# Altium integrated library ST Memory EPROM 16-512 Kbit.IntLib: 933 symbols (part 20 of 21)
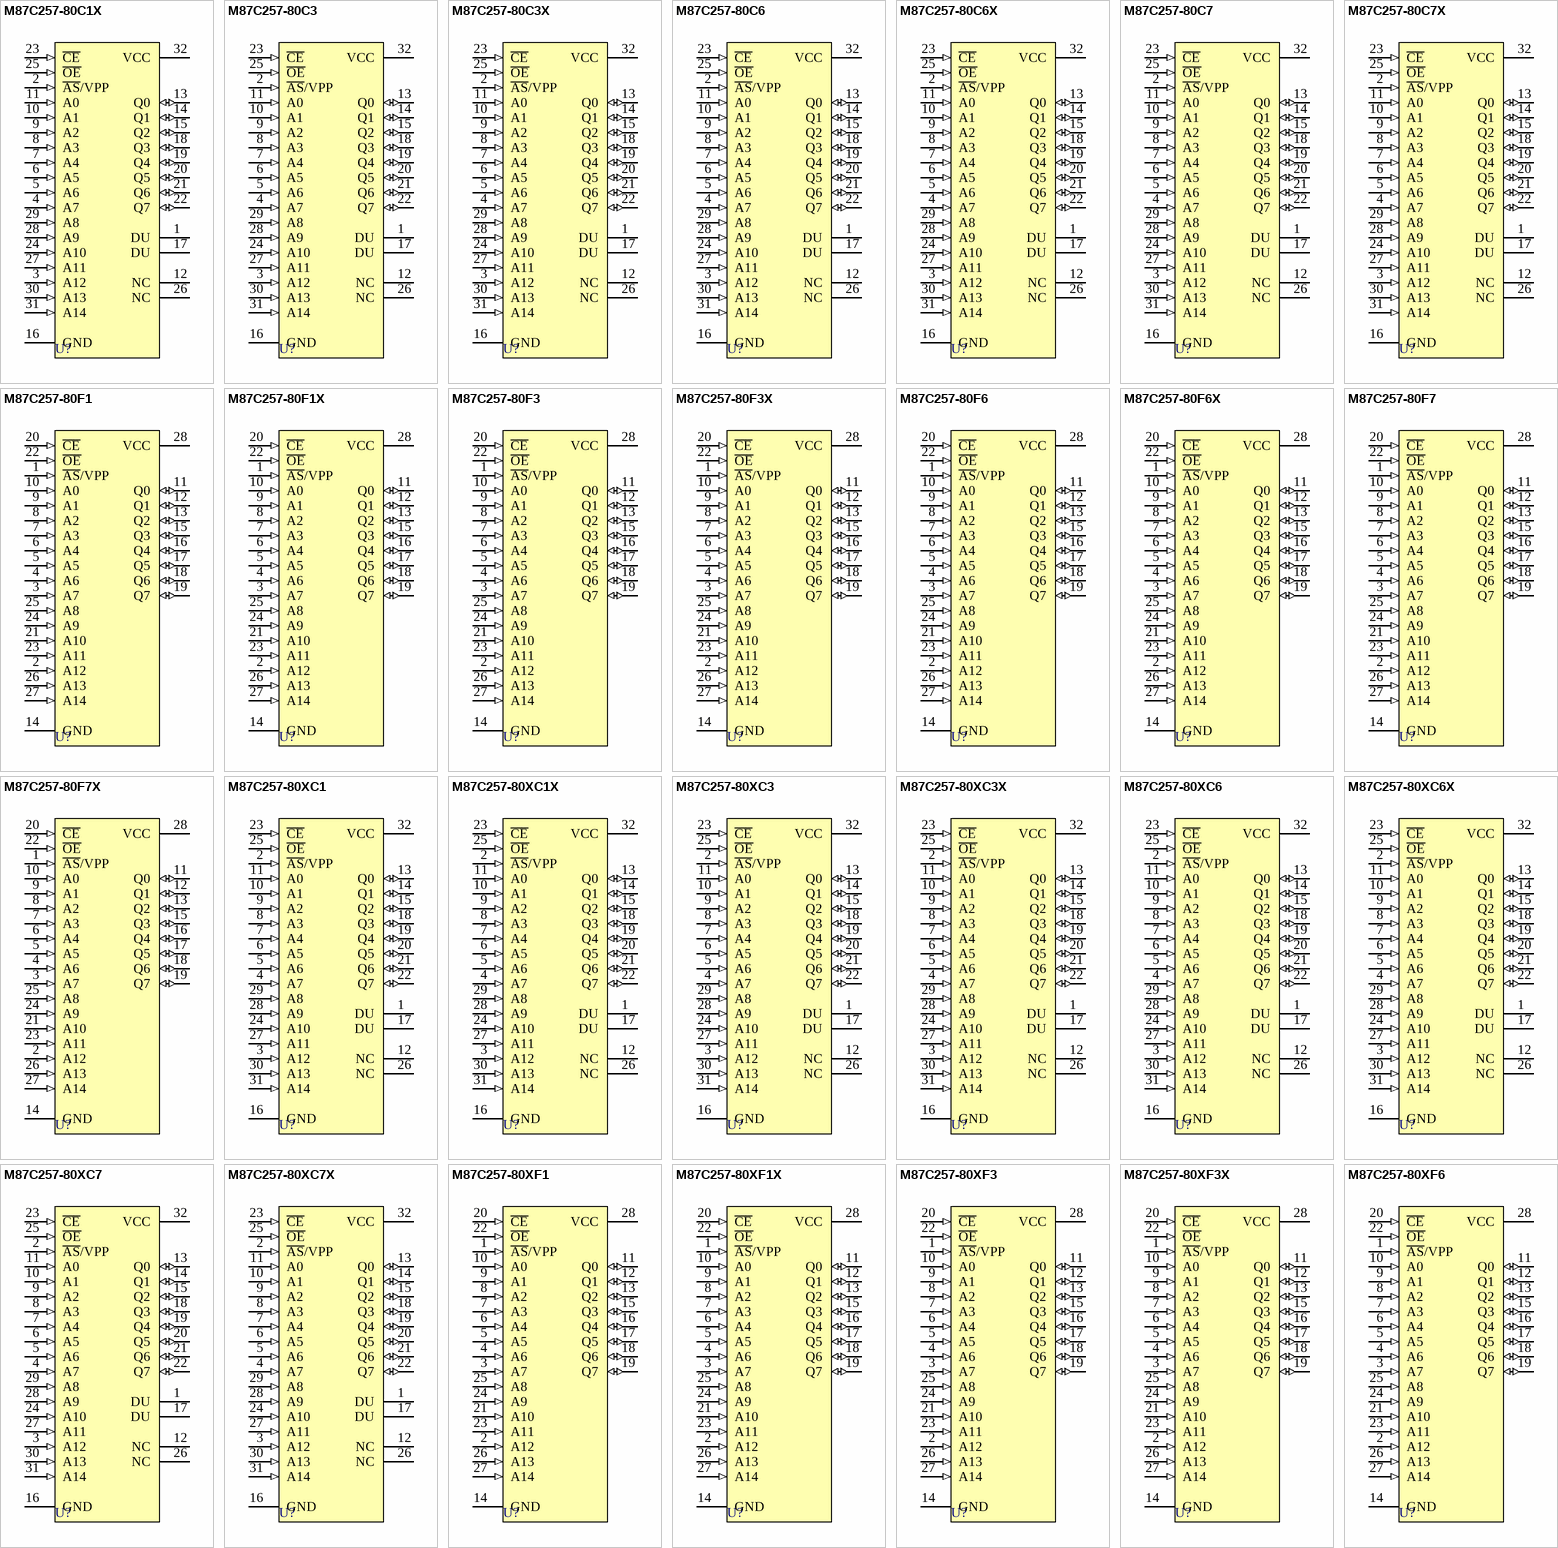
[diagram p53: symbols M87C257-80C1X to M87C257-80XF6]

## M87C257-80C7X
designator U?
Address Latched 256K (32K x 8) UV EPROM and OTP EPROM; Note: Do Not Use (DU) pin numbers 1 and 17.; Published: 24-Aug-2001; LatestRevisionDate: 06-Jun-2005; LatestRevisionNote: Stylized 3D Model Added.; DatasheetVersion: Jun-1996; PackageVersion: Jun-1998; PackageReference: PLCC32; Publisher: Altium Limited; PackageDescription: Leaded Chip Carrier; 32 Leads; Body 11.5 x 14 mm; Code_JEDEC: MS-016-AE; Code_IPC: PLCC/R-32; ComponentLink1Description: Manufacturer Link; ComponentLink1URL: http://www.st.com/
footprint PLCC32 (Leaded Chip Carrier; 32 Leads; Body 11.5 x 14 mm)
3D model M87C257-PLCC32 (Leaded Chip Carrier; 32 Leads; Body 11.5 x 14 mm)
pins: 1 DU, 2 ~{AS}/VPP (in), 3 A12 (in), 4 A7 (in), 5 A6 (in), 6 A5 (in), 7 A4 (in), 8 A3 (in), 9 A2 (in), 10 A1 (in), 11 A0 (in), 12 NC, 13 Q0 (io), 14 Q1 (io), 15 Q2 (io), 16 GND (power), 17 DU, 18 Q3 (io), 19 Q4 (io), 20 Q5 (io), 21 Q6 (io), 22 Q7 (io), 23 ~{CE} (in), 24 A10 (in), 25 ~{OE} (in), 26 NC, 27 A11 (in), 28 A9 (in), 29 A8 (in), 30 A13 (in), 31 A14 (in), 32 VCC (power)

## M87C257-80F1
designator U?
Address Latched 256K (32K x 8) UV EPROM and OTP EPROM; Published: 24-Aug-2001; LatestRevisionDate: 06-Jun-2005; LatestRevisionNote: Stylized 3D Model Added.; DatasheetVersion: Jun-1996; PackageReference: FDIP28W; Publisher: Altium Limited; PackageDescription: Ceramic Frit-seal DIP, Window; 28 Leads; Row Spacing 15.24 mm; Pitch 2.54 mm; ComponentLink1Description: Manufacturer Link; ComponentLink1URL: http://www.st.com/
footprint FDIP28W (Ceramic Frit-seal DIP, Window; 28 Leads; Row Spacing 15.24 mm; Pitch 2.54 mm)
3D model FDIP28W (Ceramic Frit-seal DIP, Window; 28 Leads; Row Spacing 15.24 mm; Pitch 2.54 mm)
pins: 1 ~{AS}/VPP (in), 2 A12 (in), 3 A7 (in), 4 A6 (in), 5 A5 (in), 6 A4 (in), 7 A3 (in), 8 A2 (in), 9 A1 (in), 10 A0 (in), 11 Q0 (io), 12 Q1 (io), 13 Q2 (io), 14 GND (power), 15 Q3 (io), 16 Q4 (io), 17 Q5 (io), 18 Q6 (io), 19 Q7 (io), 20 ~{CE} (in), 21 A10 (in), 22 ~{OE} (in), 23 A11 (in), 24 A9 (in), 25 A8 (in), 26 A13 (in), 27 A14 (in), 28 VCC (power)

## M87C257-80F1X
designator U?
Address Latched 256K (32K x 8) UV EPROM and OTP EPROM; Published: 24-Aug-2001; LatestRevisionDate: 06-Jun-2005; LatestRevisionNote: Stylized 3D Model Added.; DatasheetVersion: Jun-1996; PackageReference: FDIP28W; Publisher: Altium Limited; PackageDescription: Ceramic Frit-seal DIP, Window; 28 Leads; Row Spacing 15.24 mm; Pitch 2.54 mm; ComponentLink1Description: Manufacturer Link; ComponentLink1URL: http://www.st.com/
footprint FDIP28W (Ceramic Frit-seal DIP, Window; 28 Leads; Row Spacing 15.24 mm; Pitch 2.54 mm)
3D model FDIP28W (Ceramic Frit-seal DIP, Window; 28 Leads; Row Spacing 15.24 mm; Pitch 2.54 mm)
pins: 1 ~{AS}/VPP (in), 2 A12 (in), 3 A7 (in), 4 A6 (in), 5 A5 (in), 6 A4 (in), 7 A3 (in), 8 A2 (in), 9 A1 (in), 10 A0 (in), 11 Q0 (io), 12 Q1 (io), 13 Q2 (io), 14 GND (power), 15 Q3 (io), 16 Q4 (io), 17 Q5 (io), 18 Q6 (io), 19 Q7 (io), 20 ~{CE} (in), 21 A10 (in), 22 ~{OE} (in), 23 A11 (in), 24 A9 (in), 25 A8 (in), 26 A13 (in), 27 A14 (in), 28 VCC (power)

## M87C257-80F3
designator U?
Address Latched 256K (32K x 8) UV EPROM and OTP EPROM; Published: 24-Aug-2001; LatestRevisionDate: 06-Jun-2005; LatestRevisionNote: Stylized 3D Model Added.; DatasheetVersion: Jun-1996; PackageReference: FDIP28W; Publisher: Altium Limited; PackageDescription: Ceramic Frit-seal DIP, Window; 28 Leads; Row Spacing 15.24 mm; Pitch 2.54 mm; ComponentLink1Description: Manufacturer Link; ComponentLink1URL: http://www.st.com/
footprint FDIP28W (Ceramic Frit-seal DIP, Window; 28 Leads; Row Spacing 15.24 mm; Pitch 2.54 mm)
3D model FDIP28W (Ceramic Frit-seal DIP, Window; 28 Leads; Row Spacing 15.24 mm; Pitch 2.54 mm)
pins: 1 ~{AS}/VPP (in), 2 A12 (in), 3 A7 (in), 4 A6 (in), 5 A5 (in), 6 A4 (in), 7 A3 (in), 8 A2 (in), 9 A1 (in), 10 A0 (in), 11 Q0 (io), 12 Q1 (io), 13 Q2 (io), 14 GND (power), 15 Q3 (io), 16 Q4 (io), 17 Q5 (io), 18 Q6 (io), 19 Q7 (io), 20 ~{CE} (in), 21 A10 (in), 22 ~{OE} (in), 23 A11 (in), 24 A9 (in), 25 A8 (in), 26 A13 (in), 27 A14 (in), 28 VCC (power)

## M87C257-80F3X
designator U?
Address Latched 256K (32K x 8) UV EPROM and OTP EPROM; Published: 24-Aug-2001; LatestRevisionDate: 06-Jun-2005; LatestRevisionNote: Stylized 3D Model Added.; DatasheetVersion: Jun-1996; PackageReference: FDIP28W; Publisher: Altium Limited; PackageDescription: Ceramic Frit-seal DIP, Window; 28 Leads; Row Spacing 15.24 mm; Pitch 2.54 mm; ComponentLink1Description: Manufacturer Link; ComponentLink1URL: http://www.st.com/
footprint FDIP28W (Ceramic Frit-seal DIP, Window; 28 Leads; Row Spacing 15.24 mm; Pitch 2.54 mm)
3D model FDIP28W (Ceramic Frit-seal DIP, Window; 28 Leads; Row Spacing 15.24 mm; Pitch 2.54 mm)
pins: 1 ~{AS}/VPP (in), 2 A12 (in), 3 A7 (in), 4 A6 (in), 5 A5 (in), 6 A4 (in), 7 A3 (in), 8 A2 (in), 9 A1 (in), 10 A0 (in), 11 Q0 (io), 12 Q1 (io), 13 Q2 (io), 14 GND (power), 15 Q3 (io), 16 Q4 (io), 17 Q5 (io), 18 Q6 (io), 19 Q7 (io), 20 ~{CE} (in), 21 A10 (in), 22 ~{OE} (in), 23 A11 (in), 24 A9 (in), 25 A8 (in), 26 A13 (in), 27 A14 (in), 28 VCC (power)

## M87C257-80F6
designator U?
Address Latched 256K (32K x 8) UV EPROM and OTP EPROM; Published: 24-Aug-2001; LatestRevisionDate: 06-Jun-2005; LatestRevisionNote: Stylized 3D Model Added.; DatasheetVersion: Jun-1996; PackageReference: FDIP28W; Publisher: Altium Limited; PackageDescription: Ceramic Frit-seal DIP, Window; 28 Leads; Row Spacing 15.24 mm; Pitch 2.54 mm; ComponentLink1Description: Manufacturer Link; ComponentLink1URL: http://www.st.com/
footprint FDIP28W (Ceramic Frit-seal DIP, Window; 28 Leads; Row Spacing 15.24 mm; Pitch 2.54 mm)
3D model FDIP28W (Ceramic Frit-seal DIP, Window; 28 Leads; Row Spacing 15.24 mm; Pitch 2.54 mm)
pins: 1 ~{AS}/VPP (in), 2 A12 (in), 3 A7 (in), 4 A6 (in), 5 A5 (in), 6 A4 (in), 7 A3 (in), 8 A2 (in), 9 A1 (in), 10 A0 (in), 11 Q0 (io), 12 Q1 (io), 13 Q2 (io), 14 GND (power), 15 Q3 (io), 16 Q4 (io), 17 Q5 (io), 18 Q6 (io), 19 Q7 (io), 20 ~{CE} (in), 21 A10 (in), 22 ~{OE} (in), 23 A11 (in), 24 A9 (in), 25 A8 (in), 26 A13 (in), 27 A14 (in), 28 VCC (power)

## M87C257-80F6X
designator U?
Address Latched 256K (32K x 8) UV EPROM and OTP EPROM; Published: 24-Aug-2001; LatestRevisionDate: 06-Jun-2005; LatestRevisionNote: Stylized 3D Model Added.; DatasheetVersion: Jun-1996; PackageReference: FDIP28W; Publisher: Altium Limited; PackageDescription: Ceramic Frit-seal DIP, Window; 28 Leads; Row Spacing 15.24 mm; Pitch 2.54 mm; ComponentLink1Description: Manufacturer Link; ComponentLink1URL: http://www.st.com/
footprint FDIP28W (Ceramic Frit-seal DIP, Window; 28 Leads; Row Spacing 15.24 mm; Pitch 2.54 mm)
3D model FDIP28W (Ceramic Frit-seal DIP, Window; 28 Leads; Row Spacing 15.24 mm; Pitch 2.54 mm)
pins: 1 ~{AS}/VPP (in), 2 A12 (in), 3 A7 (in), 4 A6 (in), 5 A5 (in), 6 A4 (in), 7 A3 (in), 8 A2 (in), 9 A1 (in), 10 A0 (in), 11 Q0 (io), 12 Q1 (io), 13 Q2 (io), 14 GND (power), 15 Q3 (io), 16 Q4 (io), 17 Q5 (io), 18 Q6 (io), 19 Q7 (io), 20 ~{CE} (in), 21 A10 (in), 22 ~{OE} (in), 23 A11 (in), 24 A9 (in), 25 A8 (in), 26 A13 (in), 27 A14 (in), 28 VCC (power)

## M87C257-80F7
designator U?
Address Latched 256K (32K x 8) UV EPROM and OTP EPROM; Published: 24-Aug-2001; LatestRevisionDate: 06-Jun-2005; LatestRevisionNote: Stylized 3D Model Added.; DatasheetVersion: Jun-1996; PackageReference: FDIP28W; Publisher: Altium Limited; PackageDescription: Ceramic Frit-seal DIP, Window; 28 Leads; Row Spacing 15.24 mm; Pitch 2.54 mm; ComponentLink1Description: Manufacturer Link; ComponentLink1URL: http://www.st.com/
footprint FDIP28W (Ceramic Frit-seal DIP, Window; 28 Leads; Row Spacing 15.24 mm; Pitch 2.54 mm)
3D model FDIP28W (Ceramic Frit-seal DIP, Window; 28 Leads; Row Spacing 15.24 mm; Pitch 2.54 mm)
pins: 1 ~{AS}/VPP (in), 2 A12 (in), 3 A7 (in), 4 A6 (in), 5 A5 (in), 6 A4 (in), 7 A3 (in), 8 A2 (in), 9 A1 (in), 10 A0 (in), 11 Q0 (io), 12 Q1 (io), 13 Q2 (io), 14 GND (power), 15 Q3 (io), 16 Q4 (io), 17 Q5 (io), 18 Q6 (io), 19 Q7 (io), 20 ~{CE} (in), 21 A10 (in), 22 ~{OE} (in), 23 A11 (in), 24 A9 (in), 25 A8 (in), 26 A13 (in), 27 A14 (in), 28 VCC (power)

## M87C257-80F7X
designator U?
Address Latched 256K (32K x 8) UV EPROM and OTP EPROM; Published: 24-Aug-2001; LatestRevisionDate: 06-Jun-2005; LatestRevisionNote: Stylized 3D Model Added.; DatasheetVersion: Jun-1996; PackageReference: FDIP28W; Publisher: Altium Limited; PackageDescription: Ceramic Frit-seal DIP, Window; 28 Leads; Row Spacing 15.24 mm; Pitch 2.54 mm; ComponentLink1Description: Manufacturer Link; ComponentLink1URL: http://www.st.com/
footprint FDIP28W (Ceramic Frit-seal DIP, Window; 28 Leads; Row Spacing 15.24 mm; Pitch 2.54 mm)
3D model FDIP28W (Ceramic Frit-seal DIP, Window; 28 Leads; Row Spacing 15.24 mm; Pitch 2.54 mm)
pins: 1 ~{AS}/VPP (in), 2 A12 (in), 3 A7 (in), 4 A6 (in), 5 A5 (in), 6 A4 (in), 7 A3 (in), 8 A2 (in), 9 A1 (in), 10 A0 (in), 11 Q0 (io), 12 Q1 (io), 13 Q2 (io), 14 GND (power), 15 Q3 (io), 16 Q4 (io), 17 Q5 (io), 18 Q6 (io), 19 Q7 (io), 20 ~{CE} (in), 21 A10 (in), 22 ~{OE} (in), 23 A11 (in), 24 A9 (in), 25 A8 (in), 26 A13 (in), 27 A14 (in), 28 VCC (power)

## M87C257-80XC1
designator U?
Address Latched 256K (32K x 8) UV EPROM and OTP EPROM; Note: Do Not Use (DU) pin numbers 1 and 17.; Published: 24-Aug-2001; LatestRevisionDate: 06-Jun-2005; LatestRevisionNote: Stylized 3D Model Added.; DatasheetVersion: Jun-1996; PackageVersion: Jun-1998; PackageReference: PLCC32; Publisher: Altium Limited; PackageDescription: Leaded Chip Carrier; 32 Leads; Body 11.5 x 14 mm; Code_JEDEC: MS-016-AE; Code_IPC: PLCC/R-32; ComponentLink1Description: Manufacturer Link; ComponentLink1URL: http://www.st.com/
footprint PLCC32 (Leaded Chip Carrier; 32 Leads; Body 11.5 x 14 mm)
3D model M87C257-PLCC32 (Leaded Chip Carrier; 32 Leads; Body 11.5 x 14 mm)
pins: 1 DU, 2 ~{AS}/VPP (in), 3 A12 (in), 4 A7 (in), 5 A6 (in), 6 A5 (in), 7 A4 (in), 8 A3 (in), 9 A2 (in), 10 A1 (in), 11 A0 (in), 12 NC, 13 Q0 (io), 14 Q1 (io), 15 Q2 (io), 16 GND (power), 17 DU, 18 Q3 (io), 19 Q4 (io), 20 Q5 (io), 21 Q6 (io), 22 Q7 (io), 23 ~{CE} (in), 24 A10 (in), 25 ~{OE} (in), 26 NC, 27 A11 (in), 28 A9 (in), 29 A8 (in), 30 A13 (in), 31 A14 (in), 32 VCC (power)

## M87C257-80XC1X
designator U?
Address Latched 256K (32K x 8) UV EPROM and OTP EPROM; Note: Do Not Use (DU) pin numbers 1 and 17.; Published: 24-Aug-2001; LatestRevisionDate: 06-Jun-2005; LatestRevisionNote: Stylized 3D Model Added.; DatasheetVersion: Jun-1996; PackageVersion: Jun-1998; PackageReference: PLCC32; Publisher: Altium Limited; PackageDescription: Leaded Chip Carrier; 32 Leads; Body 11.5 x 14 mm; Code_JEDEC: MS-016-AE; Code_IPC: PLCC/R-32; ComponentLink1Description: Manufacturer Link; ComponentLink1URL: http://www.st.com/
footprint PLCC32 (Leaded Chip Carrier; 32 Leads; Body 11.5 x 14 mm)
3D model M87C257-PLCC32 (Leaded Chip Carrier; 32 Leads; Body 11.5 x 14 mm)
pins: 1 DU, 2 ~{AS}/VPP (in), 3 A12 (in), 4 A7 (in), 5 A6 (in), 6 A5 (in), 7 A4 (in), 8 A3 (in), 9 A2 (in), 10 A1 (in), 11 A0 (in), 12 NC, 13 Q0 (io), 14 Q1 (io), 15 Q2 (io), 16 GND (power), 17 DU, 18 Q3 (io), 19 Q4 (io), 20 Q5 (io), 21 Q6 (io), 22 Q7 (io), 23 ~{CE} (in), 24 A10 (in), 25 ~{OE} (in), 26 NC, 27 A11 (in), 28 A9 (in), 29 A8 (in), 30 A13 (in), 31 A14 (in), 32 VCC (power)

## M87C257-80XC3
designator U?
Address Latched 256K (32K x 8) UV EPROM and OTP EPROM; Note: Do Not Use (DU) pin numbers 1 and 17.; Published: 24-Aug-2001; LatestRevisionDate: 06-Jun-2005; LatestRevisionNote: Stylized 3D Model Added.; DatasheetVersion: Jun-1996; PackageVersion: Jun-1998; PackageReference: PLCC32; Publisher: Altium Limited; PackageDescription: Leaded Chip Carrier; 32 Leads; Body 11.5 x 14 mm; Code_JEDEC: MS-016-AE; Code_IPC: PLCC/R-32; ComponentLink1Description: Manufacturer Link; ComponentLink1URL: http://www.st.com/
footprint PLCC32 (Leaded Chip Carrier; 32 Leads; Body 11.5 x 14 mm)
3D model M87C257-PLCC32 (Leaded Chip Carrier; 32 Leads; Body 11.5 x 14 mm)
pins: 1 DU, 2 ~{AS}/VPP (in), 3 A12 (in), 4 A7 (in), 5 A6 (in), 6 A5 (in), 7 A4 (in), 8 A3 (in), 9 A2 (in), 10 A1 (in), 11 A0 (in), 12 NC, 13 Q0 (io), 14 Q1 (io), 15 Q2 (io), 16 GND (power), 17 DU, 18 Q3 (io), 19 Q4 (io), 20 Q5 (io), 21 Q6 (io), 22 Q7 (io), 23 ~{CE} (in), 24 A10 (in), 25 ~{OE} (in), 26 NC, 27 A11 (in), 28 A9 (in), 29 A8 (in), 30 A13 (in), 31 A14 (in), 32 VCC (power)

## M87C257-80XC3X
designator U?
Address Latched 256K (32K x 8) UV EPROM and OTP EPROM; Note: Do Not Use (DU) pin numbers 1 and 17.; Published: 24-Aug-2001; LatestRevisionDate: 06-Jun-2005; LatestRevisionNote: Stylized 3D Model Added.; DatasheetVersion: Jun-1996; PackageVersion: Jun-1998; PackageReference: PLCC32; Publisher: Altium Limited; PackageDescription: Leaded Chip Carrier; 32 Leads; Body 11.5 x 14 mm; Code_JEDEC: MS-016-AE; Code_IPC: PLCC/R-32; ComponentLink1Description: Manufacturer Link; ComponentLink1URL: http://www.st.com/
footprint PLCC32 (Leaded Chip Carrier; 32 Leads; Body 11.5 x 14 mm)
3D model M87C257-PLCC32 (Leaded Chip Carrier; 32 Leads; Body 11.5 x 14 mm)
pins: 1 DU, 2 ~{AS}/VPP (in), 3 A12 (in), 4 A7 (in), 5 A6 (in), 6 A5 (in), 7 A4 (in), 8 A3 (in), 9 A2 (in), 10 A1 (in), 11 A0 (in), 12 NC, 13 Q0 (io), 14 Q1 (io), 15 Q2 (io), 16 GND (power), 17 DU, 18 Q3 (io), 19 Q4 (io), 20 Q5 (io), 21 Q6 (io), 22 Q7 (io), 23 ~{CE} (in), 24 A10 (in), 25 ~{OE} (in), 26 NC, 27 A11 (in), 28 A9 (in), 29 A8 (in), 30 A13 (in), 31 A14 (in), 32 VCC (power)

## M87C257-80XC6
designator U?
Address Latched 256K (32K x 8) UV EPROM and OTP EPROM; Note: Do Not Use (DU) pin numbers 1 and 17.; Published: 24-Aug-2001; LatestRevisionDate: 06-Jun-2005; LatestRevisionNote: Stylized 3D Model Added.; DatasheetVersion: Jun-1996; PackageVersion: Jun-1998; PackageReference: PLCC32; Publisher: Altium Limited; PackageDescription: Leaded Chip Carrier; 32 Leads; Body 11.5 x 14 mm; Code_JEDEC: MS-016-AE; Code_IPC: PLCC/R-32; ComponentLink1Description: Manufacturer Link; ComponentLink1URL: http://www.st.com/
footprint PLCC32 (Leaded Chip Carrier; 32 Leads; Body 11.5 x 14 mm)
3D model M87C257-PLCC32 (Leaded Chip Carrier; 32 Leads; Body 11.5 x 14 mm)
pins: 1 DU, 2 ~{AS}/VPP (in), 3 A12 (in), 4 A7 (in), 5 A6 (in), 6 A5 (in), 7 A4 (in), 8 A3 (in), 9 A2 (in), 10 A1 (in), 11 A0 (in), 12 NC, 13 Q0 (io), 14 Q1 (io), 15 Q2 (io), 16 GND (power), 17 DU, 18 Q3 (io), 19 Q4 (io), 20 Q5 (io), 21 Q6 (io), 22 Q7 (io), 23 ~{CE} (in), 24 A10 (in), 25 ~{OE} (in), 26 NC, 27 A11 (in), 28 A9 (in), 29 A8 (in), 30 A13 (in), 31 A14 (in), 32 VCC (power)

## M87C257-80XC6X
designator U?
Address Latched 256K (32K x 8) UV EPROM and OTP EPROM; Note: Do Not Use (DU) pin numbers 1 and 17.; Published: 24-Aug-2001; LatestRevisionDate: 06-Jun-2005; LatestRevisionNote: Stylized 3D Model Added.; DatasheetVersion: Jun-1996; PackageVersion: Jun-1998; PackageReference: PLCC32; Publisher: Altium Limited; PackageDescription: Leaded Chip Carrier; 32 Leads; Body 11.5 x 14 mm; Code_JEDEC: MS-016-AE; Code_IPC: PLCC/R-32; ComponentLink1Description: Manufacturer Link; ComponentLink1URL: http://www.st.com/
footprint PLCC32 (Leaded Chip Carrier; 32 Leads; Body 11.5 x 14 mm)
3D model M87C257-PLCC32 (Leaded Chip Carrier; 32 Leads; Body 11.5 x 14 mm)
pins: 1 DU, 2 ~{AS}/VPP (in), 3 A12 (in), 4 A7 (in), 5 A6 (in), 6 A5 (in), 7 A4 (in), 8 A3 (in), 9 A2 (in), 10 A1 (in), 11 A0 (in), 12 NC, 13 Q0 (io), 14 Q1 (io), 15 Q2 (io), 16 GND (power), 17 DU, 18 Q3 (io), 19 Q4 (io), 20 Q5 (io), 21 Q6 (io), 22 Q7 (io), 23 ~{CE} (in), 24 A10 (in), 25 ~{OE} (in), 26 NC, 27 A11 (in), 28 A9 (in), 29 A8 (in), 30 A13 (in), 31 A14 (in), 32 VCC (power)

## M87C257-80XC7
designator U?
Address Latched 256K (32K x 8) UV EPROM and OTP EPROM; Note: Do Not Use (DU) pin numbers 1 and 17.; Published: 24-Aug-2001; LatestRevisionDate: 06-Jun-2005; LatestRevisionNote: Stylized 3D Model Added.; DatasheetVersion: Jun-1996; PackageVersion: Jun-1998; PackageReference: PLCC32; Publisher: Altium Limited; PackageDescription: Leaded Chip Carrier; 32 Leads; Body 11.5 x 14 mm; Code_JEDEC: MS-016-AE; Code_IPC: PLCC/R-32; ComponentLink1Description: Manufacturer Link; ComponentLink1URL: http://www.st.com/
footprint PLCC32 (Leaded Chip Carrier; 32 Leads; Body 11.5 x 14 mm)
3D model M87C257-PLCC32 (Leaded Chip Carrier; 32 Leads; Body 11.5 x 14 mm)
pins: 1 DU, 2 ~{AS}/VPP (in), 3 A12 (in), 4 A7 (in), 5 A6 (in), 6 A5 (in), 7 A4 (in), 8 A3 (in), 9 A2 (in), 10 A1 (in), 11 A0 (in), 12 NC, 13 Q0 (io), 14 Q1 (io), 15 Q2 (io), 16 GND (power), 17 DU, 18 Q3 (io), 19 Q4 (io), 20 Q5 (io), 21 Q6 (io), 22 Q7 (io), 23 ~{CE} (in), 24 A10 (in), 25 ~{OE} (in), 26 NC, 27 A11 (in), 28 A9 (in), 29 A8 (in), 30 A13 (in), 31 A14 (in), 32 VCC (power)

## M87C257-80XC7X
designator U?
Address Latched 256K (32K x 8) UV EPROM and OTP EPROM; Note: Do Not Use (DU) pin numbers 1 and 17.; Published: 24-Aug-2001; LatestRevisionDate: 06-Jun-2005; LatestRevisionNote: Stylized 3D Model Added.; DatasheetVersion: Jun-1996; PackageVersion: Jun-1998; PackageReference: PLCC32; Publisher: Altium Limited; PackageDescription: Leaded Chip Carrier; 32 Leads; Body 11.5 x 14 mm; Code_JEDEC: MS-016-AE; Code_IPC: PLCC/R-32; ComponentLink1Description: Manufacturer Link; ComponentLink1URL: http://www.st.com/
footprint PLCC32 (Leaded Chip Carrier; 32 Leads; Body 11.5 x 14 mm)
3D model M87C257-PLCC32 (Leaded Chip Carrier; 32 Leads; Body 11.5 x 14 mm)
pins: 1 DU, 2 ~{AS}/VPP (in), 3 A12 (in), 4 A7 (in), 5 A6 (in), 6 A5 (in), 7 A4 (in), 8 A3 (in), 9 A2 (in), 10 A1 (in), 11 A0 (in), 12 NC, 13 Q0 (io), 14 Q1 (io), 15 Q2 (io), 16 GND (power), 17 DU, 18 Q3 (io), 19 Q4 (io), 20 Q5 (io), 21 Q6 (io), 22 Q7 (io), 23 ~{CE} (in), 24 A10 (in), 25 ~{OE} (in), 26 NC, 27 A11 (in), 28 A9 (in), 29 A8 (in), 30 A13 (in), 31 A14 (in), 32 VCC (power)

## M87C257-80XF1
designator U?
Address Latched 256K (32K x 8) UV EPROM and OTP EPROM; Published: 24-Aug-2001; LatestRevisionDate: 06-Jun-2005; LatestRevisionNote: Stylized 3D Model Added.; DatasheetVersion: Jun-1996; PackageReference: FDIP28W; Publisher: Altium Limited; PackageDescription: Ceramic Frit-seal DIP, Window; 28 Leads; Row Spacing 15.24 mm; Pitch 2.54 mm; ComponentLink1Description: Manufacturer Link; ComponentLink1URL: http://www.st.com/
footprint FDIP28W (Ceramic Frit-seal DIP, Window; 28 Leads; Row Spacing 15.24 mm; Pitch 2.54 mm)
3D model FDIP28W (Ceramic Frit-seal DIP, Window; 28 Leads; Row Spacing 15.24 mm; Pitch 2.54 mm)
pins: 1 ~{AS}/VPP (in), 2 A12 (in), 3 A7 (in), 4 A6 (in), 5 A5 (in), 6 A4 (in), 7 A3 (in), 8 A2 (in), 9 A1 (in), 10 A0 (in), 11 Q0 (io), 12 Q1 (io), 13 Q2 (io), 14 GND (power), 15 Q3 (io), 16 Q4 (io), 17 Q5 (io), 18 Q6 (io), 19 Q7 (io), 20 ~{CE} (in), 21 A10 (in), 22 ~{OE} (in), 23 A11 (in), 24 A9 (in), 25 A8 (in), 26 A13 (in), 27 A14 (in), 28 VCC (power)

## M87C257-80XF1X
designator U?
Address Latched 256K (32K x 8) UV EPROM and OTP EPROM; Published: 24-Aug-2001; LatestRevisionDate: 06-Jun-2005; LatestRevisionNote: Stylized 3D Model Added.; DatasheetVersion: Jun-1996; PackageReference: FDIP28W; Publisher: Altium Limited; PackageDescription: Ceramic Frit-seal DIP, Window; 28 Leads; Row Spacing 15.24 mm; Pitch 2.54 mm; ComponentLink1Description: Manufacturer Link; ComponentLink1URL: http://www.st.com/
footprint FDIP28W (Ceramic Frit-seal DIP, Window; 28 Leads; Row Spacing 15.24 mm; Pitch 2.54 mm)
3D model FDIP28W (Ceramic Frit-seal DIP, Window; 28 Leads; Row Spacing 15.24 mm; Pitch 2.54 mm)
pins: 1 ~{AS}/VPP (in), 2 A12 (in), 3 A7 (in), 4 A6 (in), 5 A5 (in), 6 A4 (in), 7 A3 (in), 8 A2 (in), 9 A1 (in), 10 A0 (in), 11 Q0 (io), 12 Q1 (io), 13 Q2 (io), 14 GND (power), 15 Q3 (io), 16 Q4 (io), 17 Q5 (io), 18 Q6 (io), 19 Q7 (io), 20 ~{CE} (in), 21 A10 (in), 22 ~{OE} (in), 23 A11 (in), 24 A9 (in), 25 A8 (in), 26 A13 (in), 27 A14 (in), 28 VCC (power)

## M87C257-80XF3
designator U?
Address Latched 256K (32K x 8) UV EPROM and OTP EPROM; Published: 24-Aug-2001; LatestRevisionDate: 06-Jun-2005; LatestRevisionNote: Stylized 3D Model Added.; DatasheetVersion: Jun-1996; PackageReference: FDIP28W; Publisher: Altium Limited; PackageDescription: Ceramic Frit-seal DIP, Window; 28 Leads; Row Spacing 15.24 mm; Pitch 2.54 mm; ComponentLink1Description: Manufacturer Link; ComponentLink1URL: http://www.st.com/
footprint FDIP28W (Ceramic Frit-seal DIP, Window; 28 Leads; Row Spacing 15.24 mm; Pitch 2.54 mm)
3D model FDIP28W (Ceramic Frit-seal DIP, Window; 28 Leads; Row Spacing 15.24 mm; Pitch 2.54 mm)
pins: 1 ~{AS}/VPP (in), 2 A12 (in), 3 A7 (in), 4 A6 (in), 5 A5 (in), 6 A4 (in), 7 A3 (in), 8 A2 (in), 9 A1 (in), 10 A0 (in), 11 Q0 (io), 12 Q1 (io), 13 Q2 (io), 14 GND (power), 15 Q3 (io), 16 Q4 (io), 17 Q5 (io), 18 Q6 (io), 19 Q7 (io), 20 ~{CE} (in), 21 A10 (in), 22 ~{OE} (in), 23 A11 (in), 24 A9 (in), 25 A8 (in), 26 A13 (in), 27 A14 (in), 28 VCC (power)

## M87C257-80XF3X
designator U?
Address Latched 256K (32K x 8) UV EPROM and OTP EPROM; Published: 24-Aug-2001; LatestRevisionDate: 06-Jun-2005; LatestRevisionNote: Stylized 3D Model Added.; DatasheetVersion: Jun-1996; PackageReference: FDIP28W; Publisher: Altium Limited; PackageDescription: Ceramic Frit-seal DIP, Window; 28 Leads; Row Spacing 15.24 mm; Pitch 2.54 mm; ComponentLink1Description: Manufacturer Link; ComponentLink1URL: http://www.st.com/
footprint FDIP28W (Ceramic Frit-seal DIP, Window; 28 Leads; Row Spacing 15.24 mm; Pitch 2.54 mm)
3D model FDIP28W (Ceramic Frit-seal DIP, Window; 28 Leads; Row Spacing 15.24 mm; Pitch 2.54 mm)
pins: 1 ~{AS}/VPP (in), 2 A12 (in), 3 A7 (in), 4 A6 (in), 5 A5 (in), 6 A4 (in), 7 A3 (in), 8 A2 (in), 9 A1 (in), 10 A0 (in), 11 Q0 (io), 12 Q1 (io), 13 Q2 (io), 14 GND (power), 15 Q3 (io), 16 Q4 (io), 17 Q5 (io), 18 Q6 (io), 19 Q7 (io), 20 ~{CE} (in), 21 A10 (in), 22 ~{OE} (in), 23 A11 (in), 24 A9 (in), 25 A8 (in), 26 A13 (in), 27 A14 (in), 28 VCC (power)

## M87C257-80XF6
designator U?
Address Latched 256K (32K x 8) UV EPROM and OTP EPROM; Published: 24-Aug-2001; LatestRevisionDate: 06-Jun-2005; LatestRevisionNote: Stylized 3D Model Added.; DatasheetVersion: Jun-1996; PackageReference: FDIP28W; Publisher: Altium Limited; PackageDescription: Ceramic Frit-seal DIP, Window; 28 Leads; Row Spacing 15.24 mm; Pitch 2.54 mm; ComponentLink1Description: Manufacturer Link; ComponentLink1URL: http://www.st.com/
footprint FDIP28W (Ceramic Frit-seal DIP, Window; 28 Leads; Row Spacing 15.24 mm; Pitch 2.54 mm)
3D model FDIP28W (Ceramic Frit-seal DIP, Window; 28 Leads; Row Spacing 15.24 mm; Pitch 2.54 mm)
pins: 1 ~{AS}/VPP (in), 2 A12 (in), 3 A7 (in), 4 A6 (in), 5 A5 (in), 6 A4 (in), 7 A3 (in), 8 A2 (in), 9 A1 (in), 10 A0 (in), 11 Q0 (io), 12 Q1 (io), 13 Q2 (io), 14 GND (power), 15 Q3 (io), 16 Q4 (io), 17 Q5 (io), 18 Q6 (io), 19 Q7 (io), 20 ~{CE} (in), 21 A10 (in), 22 ~{OE} (in), 23 A11 (in), 24 A9 (in), 25 A8 (in), 26 A13 (in), 27 A14 (in), 28 VCC (power)

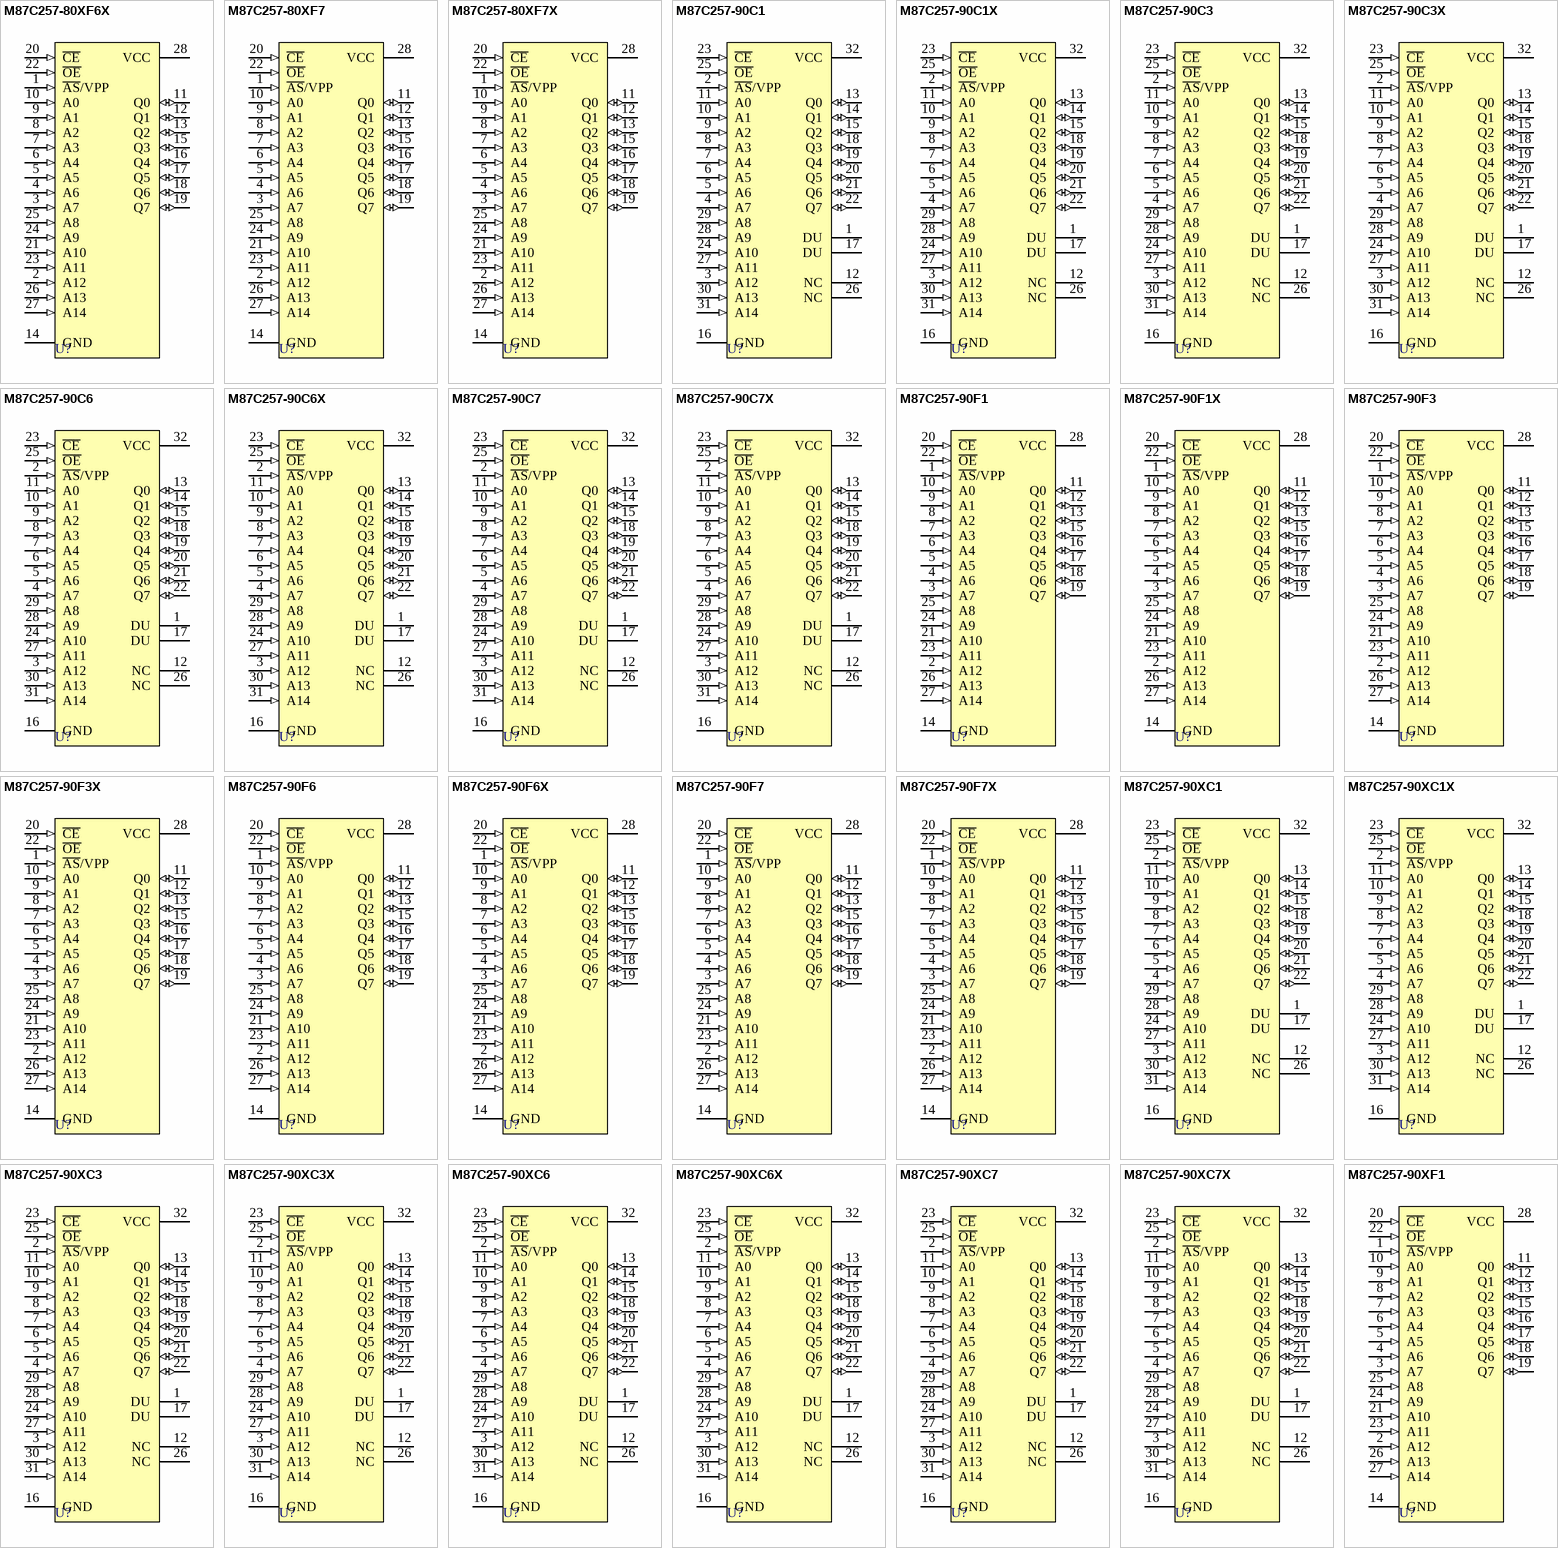
[diagram p32: symbols M87C257-80XF6X to M87C257-90XF1]

## M87C257-80XF6X
designator U?
Address Latched 256K (32K x 8) UV EPROM and OTP EPROM; Published: 24-Aug-2001; LatestRevisionDate: 06-Jun-2005; LatestRevisionNote: Stylized 3D Model Added.; DatasheetVersion: Jun-1996; PackageReference: FDIP28W; Publisher: Altium Limited; PackageDescription: Ceramic Frit-seal DIP, Window; 28 Leads; Row Spacing 15.24 mm; Pitch 2.54 mm; ComponentLink1Description: Manufacturer Link; ComponentLink1URL: http://www.st.com/
footprint FDIP28W (Ceramic Frit-seal DIP, Window; 28 Leads; Row Spacing 15.24 mm; Pitch 2.54 mm)
3D model FDIP28W (Ceramic Frit-seal DIP, Window; 28 Leads; Row Spacing 15.24 mm; Pitch 2.54 mm)
pins: 1 ~{AS}/VPP (in), 2 A12 (in), 3 A7 (in), 4 A6 (in), 5 A5 (in), 6 A4 (in), 7 A3 (in), 8 A2 (in), 9 A1 (in), 10 A0 (in), 11 Q0 (io), 12 Q1 (io), 13 Q2 (io), 14 GND (power), 15 Q3 (io), 16 Q4 (io), 17 Q5 (io), 18 Q6 (io), 19 Q7 (io), 20 ~{CE} (in), 21 A10 (in), 22 ~{OE} (in), 23 A11 (in), 24 A9 (in), 25 A8 (in), 26 A13 (in), 27 A14 (in), 28 VCC (power)

## M87C257-80XF7
designator U?
Address Latched 256K (32K x 8) UV EPROM and OTP EPROM; Published: 24-Aug-2001; LatestRevisionDate: 06-Jun-2005; LatestRevisionNote: Stylized 3D Model Added.; DatasheetVersion: Jun-1996; PackageReference: FDIP28W; Publisher: Altium Limited; PackageDescription: Ceramic Frit-seal DIP, Window; 28 Leads; Row Spacing 15.24 mm; Pitch 2.54 mm; ComponentLink1Description: Manufacturer Link; ComponentLink1URL: http://www.st.com/
footprint FDIP28W (Ceramic Frit-seal DIP, Window; 28 Leads; Row Spacing 15.24 mm; Pitch 2.54 mm)
3D model FDIP28W (Ceramic Frit-seal DIP, Window; 28 Leads; Row Spacing 15.24 mm; Pitch 2.54 mm)
pins: 1 ~{AS}/VPP (in), 2 A12 (in), 3 A7 (in), 4 A6 (in), 5 A5 (in), 6 A4 (in), 7 A3 (in), 8 A2 (in), 9 A1 (in), 10 A0 (in), 11 Q0 (io), 12 Q1 (io), 13 Q2 (io), 14 GND (power), 15 Q3 (io), 16 Q4 (io), 17 Q5 (io), 18 Q6 (io), 19 Q7 (io), 20 ~{CE} (in), 21 A10 (in), 22 ~{OE} (in), 23 A11 (in), 24 A9 (in), 25 A8 (in), 26 A13 (in), 27 A14 (in), 28 VCC (power)

## M87C257-80XF7X
designator U?
Address Latched 256K (32K x 8) UV EPROM and OTP EPROM; Published: 24-Aug-2001; LatestRevisionDate: 06-Jun-2005; LatestRevisionNote: Stylized 3D Model Added.; DatasheetVersion: Jun-1996; PackageReference: FDIP28W; Publisher: Altium Limited; PackageDescription: Ceramic Frit-seal DIP, Window; 28 Leads; Row Spacing 15.24 mm; Pitch 2.54 mm; ComponentLink1Description: Manufacturer Link; ComponentLink1URL: http://www.st.com/
footprint FDIP28W (Ceramic Frit-seal DIP, Window; 28 Leads; Row Spacing 15.24 mm; Pitch 2.54 mm)
3D model FDIP28W (Ceramic Frit-seal DIP, Window; 28 Leads; Row Spacing 15.24 mm; Pitch 2.54 mm)
pins: 1 ~{AS}/VPP (in), 2 A12 (in), 3 A7 (in), 4 A6 (in), 5 A5 (in), 6 A4 (in), 7 A3 (in), 8 A2 (in), 9 A1 (in), 10 A0 (in), 11 Q0 (io), 12 Q1 (io), 13 Q2 (io), 14 GND (power), 15 Q3 (io), 16 Q4 (io), 17 Q5 (io), 18 Q6 (io), 19 Q7 (io), 20 ~{CE} (in), 21 A10 (in), 22 ~{OE} (in), 23 A11 (in), 24 A9 (in), 25 A8 (in), 26 A13 (in), 27 A14 (in), 28 VCC (power)

## M87C257-90C1
designator U?
Address Latched 256K (32K x 8) UV EPROM and OTP EPROM; Note: Do Not Use (DU) pin numbers 1 and 17.; Published: 24-Aug-2001; LatestRevisionDate: 06-Jun-2005; LatestRevisionNote: Stylized 3D Model Added.; DatasheetVersion: Jun-1996; PackageVersion: Jun-1998; PackageReference: PLCC32; Publisher: Altium Limited; PackageDescription: Leaded Chip Carrier; 32 Leads; Body 11.5 x 14 mm; Code_JEDEC: MS-016-AE; Code_IPC: PLCC/R-32; ComponentLink1Description: Manufacturer Link; ComponentLink1URL: http://www.st.com/
footprint PLCC32 (Leaded Chip Carrier; 32 Leads; Body 11.5 x 14 mm)
3D model M87C257-PLCC32 (Leaded Chip Carrier; 32 Leads; Body 11.5 x 14 mm)
pins: 1 DU, 2 ~{AS}/VPP (in), 3 A12 (in), 4 A7 (in), 5 A6 (in), 6 A5 (in), 7 A4 (in), 8 A3 (in), 9 A2 (in), 10 A1 (in), 11 A0 (in), 12 NC, 13 Q0 (io), 14 Q1 (io), 15 Q2 (io), 16 GND (power), 17 DU, 18 Q3 (io), 19 Q4 (io), 20 Q5 (io), 21 Q6 (io), 22 Q7 (io), 23 ~{CE} (in), 24 A10 (in), 25 ~{OE} (in), 26 NC, 27 A11 (in), 28 A9 (in), 29 A8 (in), 30 A13 (in), 31 A14 (in), 32 VCC (power)

## M87C257-90C1X
designator U?
Address Latched 256K (32K x 8) UV EPROM and OTP EPROM; Note: Do Not Use (DU) pin numbers 1 and 17.; Published: 24-Aug-2001; LatestRevisionDate: 06-Jun-2005; LatestRevisionNote: Stylized 3D Model Added.; DatasheetVersion: Jun-1996; PackageVersion: Jun-1998; PackageReference: PLCC32; Publisher: Altium Limited; PackageDescription: Leaded Chip Carrier; 32 Leads; Body 11.5 x 14 mm; Code_JEDEC: MS-016-AE; Code_IPC: PLCC/R-32; ComponentLink1Description: Manufacturer Link; ComponentLink1URL: http://www.st.com/
footprint PLCC32 (Leaded Chip Carrier; 32 Leads; Body 11.5 x 14 mm)
3D model M87C257-PLCC32 (Leaded Chip Carrier; 32 Leads; Body 11.5 x 14 mm)
pins: 1 DU, 2 ~{AS}/VPP (in), 3 A12 (in), 4 A7 (in), 5 A6 (in), 6 A5 (in), 7 A4 (in), 8 A3 (in), 9 A2 (in), 10 A1 (in), 11 A0 (in), 12 NC, 13 Q0 (io), 14 Q1 (io), 15 Q2 (io), 16 GND (power), 17 DU, 18 Q3 (io), 19 Q4 (io), 20 Q5 (io), 21 Q6 (io), 22 Q7 (io), 23 ~{CE} (in), 24 A10 (in), 25 ~{OE} (in), 26 NC, 27 A11 (in), 28 A9 (in), 29 A8 (in), 30 A13 (in), 31 A14 (in), 32 VCC (power)

## M87C257-90C3
designator U?
Address Latched 256K (32K x 8) UV EPROM and OTP EPROM; Note: Do Not Use (DU) pin numbers 1 and 17.; Published: 24-Aug-2001; LatestRevisionDate: 06-Jun-2005; LatestRevisionNote: Stylized 3D Model Added.; DatasheetVersion: Jun-1996; PackageVersion: Jun-1998; PackageReference: PLCC32; Publisher: Altium Limited; PackageDescription: Leaded Chip Carrier; 32 Leads; Body 11.5 x 14 mm; Code_JEDEC: MS-016-AE; Code_IPC: PLCC/R-32; ComponentLink1Description: Manufacturer Link; ComponentLink1URL: http://www.st.com/
footprint PLCC32 (Leaded Chip Carrier; 32 Leads; Body 11.5 x 14 mm)
3D model M87C257-PLCC32 (Leaded Chip Carrier; 32 Leads; Body 11.5 x 14 mm)
pins: 1 DU, 2 ~{AS}/VPP (in), 3 A12 (in), 4 A7 (in), 5 A6 (in), 6 A5 (in), 7 A4 (in), 8 A3 (in), 9 A2 (in), 10 A1 (in), 11 A0 (in), 12 NC, 13 Q0 (io), 14 Q1 (io), 15 Q2 (io), 16 GND (power), 17 DU, 18 Q3 (io), 19 Q4 (io), 20 Q5 (io), 21 Q6 (io), 22 Q7 (io), 23 ~{CE} (in), 24 A10 (in), 25 ~{OE} (in), 26 NC, 27 A11 (in), 28 A9 (in), 29 A8 (in), 30 A13 (in), 31 A14 (in), 32 VCC (power)

## M87C257-90C3X
designator U?
Address Latched 256K (32K x 8) UV EPROM and OTP EPROM; Note: Do Not Use (DU) pin numbers 1 and 17.; Published: 24-Aug-2001; LatestRevisionDate: 06-Jun-2005; LatestRevisionNote: Stylized 3D Model Added.; DatasheetVersion: Jun-1996; PackageVersion: Jun-1998; PackageReference: PLCC32; Publisher: Altium Limited; PackageDescription: Leaded Chip Carrier; 32 Leads; Body 11.5 x 14 mm; Code_JEDEC: MS-016-AE; Code_IPC: PLCC/R-32; ComponentLink1Description: Manufacturer Link; ComponentLink1URL: http://www.st.com/
footprint PLCC32 (Leaded Chip Carrier; 32 Leads; Body 11.5 x 14 mm)
3D model M87C257-PLCC32 (Leaded Chip Carrier; 32 Leads; Body 11.5 x 14 mm)
pins: 1 DU, 2 ~{AS}/VPP (in), 3 A12 (in), 4 A7 (in), 5 A6 (in), 6 A5 (in), 7 A4 (in), 8 A3 (in), 9 A2 (in), 10 A1 (in), 11 A0 (in), 12 NC, 13 Q0 (io), 14 Q1 (io), 15 Q2 (io), 16 GND (power), 17 DU, 18 Q3 (io), 19 Q4 (io), 20 Q5 (io), 21 Q6 (io), 22 Q7 (io), 23 ~{CE} (in), 24 A10 (in), 25 ~{OE} (in), 26 NC, 27 A11 (in), 28 A9 (in), 29 A8 (in), 30 A13 (in), 31 A14 (in), 32 VCC (power)

## M87C257-90C6
designator U?
Address Latched 256K (32K x 8) UV EPROM and OTP EPROM; Note: Do Not Use (DU) pin numbers 1 and 17.; Published: 24-Aug-2001; LatestRevisionDate: 06-Jun-2005; LatestRevisionNote: Stylized 3D Model Added.; DatasheetVersion: Jun-1996; PackageVersion: Jun-1998; PackageReference: PLCC32; Publisher: Altium Limited; PackageDescription: Leaded Chip Carrier; 32 Leads; Body 11.5 x 14 mm; Code_JEDEC: MS-016-AE; Code_IPC: PLCC/R-32; ComponentLink1Description: Manufacturer Link; ComponentLink1URL: http://www.st.com/
footprint PLCC32 (Leaded Chip Carrier; 32 Leads; Body 11.5 x 14 mm)
3D model M87C257-PLCC32 (Leaded Chip Carrier; 32 Leads; Body 11.5 x 14 mm)
pins: 1 DU, 2 ~{AS}/VPP (in), 3 A12 (in), 4 A7 (in), 5 A6 (in), 6 A5 (in), 7 A4 (in), 8 A3 (in), 9 A2 (in), 10 A1 (in), 11 A0 (in), 12 NC, 13 Q0 (io), 14 Q1 (io), 15 Q2 (io), 16 GND (power), 17 DU, 18 Q3 (io), 19 Q4 (io), 20 Q5 (io), 21 Q6 (io), 22 Q7 (io), 23 ~{CE} (in), 24 A10 (in), 25 ~{OE} (in), 26 NC, 27 A11 (in), 28 A9 (in), 29 A8 (in), 30 A13 (in), 31 A14 (in), 32 VCC (power)

## M87C257-90C6X
designator U?
Address Latched 256K (32K x 8) UV EPROM and OTP EPROM; Note: Do Not Use (DU) pin numbers 1 and 17.; Published: 24-Aug-2001; LatestRevisionDate: 06-Jun-2005; LatestRevisionNote: Stylized 3D Model Added.; DatasheetVersion: Jun-1996; PackageVersion: Jun-1998; PackageReference: PLCC32; Publisher: Altium Limited; PackageDescription: Leaded Chip Carrier; 32 Leads; Body 11.5 x 14 mm; Code_JEDEC: MS-016-AE; Code_IPC: PLCC/R-32; ComponentLink1Description: Manufacturer Link; ComponentLink1URL: http://www.st.com/
footprint PLCC32 (Leaded Chip Carrier; 32 Leads; Body 11.5 x 14 mm)
3D model M87C257-PLCC32 (Leaded Chip Carrier; 32 Leads; Body 11.5 x 14 mm)
pins: 1 DU, 2 ~{AS}/VPP (in), 3 A12 (in), 4 A7 (in), 5 A6 (in), 6 A5 (in), 7 A4 (in), 8 A3 (in), 9 A2 (in), 10 A1 (in), 11 A0 (in), 12 NC, 13 Q0 (io), 14 Q1 (io), 15 Q2 (io), 16 GND (power), 17 DU, 18 Q3 (io), 19 Q4 (io), 20 Q5 (io), 21 Q6 (io), 22 Q7 (io), 23 ~{CE} (in), 24 A10 (in), 25 ~{OE} (in), 26 NC, 27 A11 (in), 28 A9 (in), 29 A8 (in), 30 A13 (in), 31 A14 (in), 32 VCC (power)

## M87C257-90C7
designator U?
Address Latched 256K (32K x 8) UV EPROM and OTP EPROM; Note: Do Not Use (DU) pin numbers 1 and 17.; Published: 24-Aug-2001; LatestRevisionDate: 06-Jun-2005; LatestRevisionNote: Stylized 3D Model Added.; DatasheetVersion: Jun-1996; PackageVersion: Jun-1998; PackageReference: PLCC32; Publisher: Altium Limited; PackageDescription: Leaded Chip Carrier; 32 Leads; Body 11.5 x 14 mm; Code_JEDEC: MS-016-AE; Code_IPC: PLCC/R-32; ComponentLink1Description: Manufacturer Link; ComponentLink1URL: http://www.st.com/
footprint PLCC32 (Leaded Chip Carrier; 32 Leads; Body 11.5 x 14 mm)
3D model M87C257-PLCC32 (Leaded Chip Carrier; 32 Leads; Body 11.5 x 14 mm)
pins: 1 DU, 2 ~{AS}/VPP (in), 3 A12 (in), 4 A7 (in), 5 A6 (in), 6 A5 (in), 7 A4 (in), 8 A3 (in), 9 A2 (in), 10 A1 (in), 11 A0 (in), 12 NC, 13 Q0 (io), 14 Q1 (io), 15 Q2 (io), 16 GND (power), 17 DU, 18 Q3 (io), 19 Q4 (io), 20 Q5 (io), 21 Q6 (io), 22 Q7 (io), 23 ~{CE} (in), 24 A10 (in), 25 ~{OE} (in), 26 NC, 27 A11 (in), 28 A9 (in), 29 A8 (in), 30 A13 (in), 31 A14 (in), 32 VCC (power)

## M87C257-90C7X
designator U?
Address Latched 256K (32K x 8) UV EPROM and OTP EPROM; Note: Do Not Use (DU) pin numbers 1 and 17.; Published: 24-Aug-2001; LatestRevisionDate: 06-Jun-2005; LatestRevisionNote: Stylized 3D Model Added.; DatasheetVersion: Jun-1996; PackageVersion: Jun-1998; PackageReference: PLCC32; Publisher: Altium Limited; PackageDescription: Leaded Chip Carrier; 32 Leads; Body 11.5 x 14 mm; Code_JEDEC: MS-016-AE; Code_IPC: PLCC/R-32; ComponentLink1Description: Manufacturer Link; ComponentLink1URL: http://www.st.com/
footprint PLCC32 (Leaded Chip Carrier; 32 Leads; Body 11.5 x 14 mm)
3D model M87C257-PLCC32 (Leaded Chip Carrier; 32 Leads; Body 11.5 x 14 mm)
pins: 1 DU, 2 ~{AS}/VPP (in), 3 A12 (in), 4 A7 (in), 5 A6 (in), 6 A5 (in), 7 A4 (in), 8 A3 (in), 9 A2 (in), 10 A1 (in), 11 A0 (in), 12 NC, 13 Q0 (io), 14 Q1 (io), 15 Q2 (io), 16 GND (power), 17 DU, 18 Q3 (io), 19 Q4 (io), 20 Q5 (io), 21 Q6 (io), 22 Q7 (io), 23 ~{CE} (in), 24 A10 (in), 25 ~{OE} (in), 26 NC, 27 A11 (in), 28 A9 (in), 29 A8 (in), 30 A13 (in), 31 A14 (in), 32 VCC (power)

## M87C257-90F1
designator U?
Address Latched 256K (32K x 8) UV EPROM and OTP EPROM; Published: 24-Aug-2001; LatestRevisionDate: 06-Jun-2005; LatestRevisionNote: Stylized 3D Model Added.; DatasheetVersion: Jun-1996; PackageReference: FDIP28W; Publisher: Altium Limited; PackageDescription: Ceramic Frit-seal DIP, Window; 28 Leads; Row Spacing 15.24 mm; Pitch 2.54 mm; ComponentLink1Description: Manufacturer Link; ComponentLink1URL: http://www.st.com/
footprint FDIP28W (Ceramic Frit-seal DIP, Window; 28 Leads; Row Spacing 15.24 mm; Pitch 2.54 mm)
3D model FDIP28W (Ceramic Frit-seal DIP, Window; 28 Leads; Row Spacing 15.24 mm; Pitch 2.54 mm)
pins: 1 ~{AS}/VPP (in), 2 A12 (in), 3 A7 (in), 4 A6 (in), 5 A5 (in), 6 A4 (in), 7 A3 (in), 8 A2 (in), 9 A1 (in), 10 A0 (in), 11 Q0 (io), 12 Q1 (io), 13 Q2 (io), 14 GND (power), 15 Q3 (io), 16 Q4 (io), 17 Q5 (io), 18 Q6 (io), 19 Q7 (io), 20 ~{CE} (in), 21 A10 (in), 22 ~{OE} (in), 23 A11 (in), 24 A9 (in), 25 A8 (in), 26 A13 (in), 27 A14 (in), 28 VCC (power)

## M87C257-90F1X
designator U?
Address Latched 256K (32K x 8) UV EPROM and OTP EPROM; Published: 24-Aug-2001; LatestRevisionDate: 06-Jun-2005; LatestRevisionNote: Stylized 3D Model Added.; DatasheetVersion: Jun-1996; PackageReference: FDIP28W; Publisher: Altium Limited; PackageDescription: Ceramic Frit-seal DIP, Window; 28 Leads; Row Spacing 15.24 mm; Pitch 2.54 mm; ComponentLink1Description: Manufacturer Link; ComponentLink1URL: http://www.st.com/
footprint FDIP28W (Ceramic Frit-seal DIP, Window; 28 Leads; Row Spacing 15.24 mm; Pitch 2.54 mm)
3D model FDIP28W (Ceramic Frit-seal DIP, Window; 28 Leads; Row Spacing 15.24 mm; Pitch 2.54 mm)
pins: 1 ~{AS}/VPP (in), 2 A12 (in), 3 A7 (in), 4 A6 (in), 5 A5 (in), 6 A4 (in), 7 A3 (in), 8 A2 (in), 9 A1 (in), 10 A0 (in), 11 Q0 (io), 12 Q1 (io), 13 Q2 (io), 14 GND (power), 15 Q3 (io), 16 Q4 (io), 17 Q5 (io), 18 Q6 (io), 19 Q7 (io), 20 ~{CE} (in), 21 A10 (in), 22 ~{OE} (in), 23 A11 (in), 24 A9 (in), 25 A8 (in), 26 A13 (in), 27 A14 (in), 28 VCC (power)

## M87C257-90F3
designator U?
Address Latched 256K (32K x 8) UV EPROM and OTP EPROM; Published: 24-Aug-2001; LatestRevisionDate: 06-Jun-2005; LatestRevisionNote: Stylized 3D Model Added.; DatasheetVersion: Jun-1996; PackageReference: FDIP28W; Publisher: Altium Limited; PackageDescription: Ceramic Frit-seal DIP, Window; 28 Leads; Row Spacing 15.24 mm; Pitch 2.54 mm; ComponentLink1Description: Manufacturer Link; ComponentLink1URL: http://www.st.com/
footprint FDIP28W (Ceramic Frit-seal DIP, Window; 28 Leads; Row Spacing 15.24 mm; Pitch 2.54 mm)
3D model FDIP28W (Ceramic Frit-seal DIP, Window; 28 Leads; Row Spacing 15.24 mm; Pitch 2.54 mm)
pins: 1 ~{AS}/VPP (in), 2 A12 (in), 3 A7 (in), 4 A6 (in), 5 A5 (in), 6 A4 (in), 7 A3 (in), 8 A2 (in), 9 A1 (in), 10 A0 (in), 11 Q0 (io), 12 Q1 (io), 13 Q2 (io), 14 GND (power), 15 Q3 (io), 16 Q4 (io), 17 Q5 (io), 18 Q6 (io), 19 Q7 (io), 20 ~{CE} (in), 21 A10 (in), 22 ~{OE} (in), 23 A11 (in), 24 A9 (in), 25 A8 (in), 26 A13 (in), 27 A14 (in), 28 VCC (power)

## M87C257-90F3X
designator U?
Address Latched 256K (32K x 8) UV EPROM and OTP EPROM; Published: 24-Aug-2001; LatestRevisionDate: 06-Jun-2005; LatestRevisionNote: Stylized 3D Model Added.; DatasheetVersion: Jun-1996; PackageReference: FDIP28W; Publisher: Altium Limited; PackageDescription: Ceramic Frit-seal DIP, Window; 28 Leads; Row Spacing 15.24 mm; Pitch 2.54 mm; ComponentLink1Description: Manufacturer Link; ComponentLink1URL: http://www.st.com/
footprint FDIP28W (Ceramic Frit-seal DIP, Window; 28 Leads; Row Spacing 15.24 mm; Pitch 2.54 mm)
3D model FDIP28W (Ceramic Frit-seal DIP, Window; 28 Leads; Row Spacing 15.24 mm; Pitch 2.54 mm)
pins: 1 ~{AS}/VPP (in), 2 A12 (in), 3 A7 (in), 4 A6 (in), 5 A5 (in), 6 A4 (in), 7 A3 (in), 8 A2 (in), 9 A1 (in), 10 A0 (in), 11 Q0 (io), 12 Q1 (io), 13 Q2 (io), 14 GND (power), 15 Q3 (io), 16 Q4 (io), 17 Q5 (io), 18 Q6 (io), 19 Q7 (io), 20 ~{CE} (in), 21 A10 (in), 22 ~{OE} (in), 23 A11 (in), 24 A9 (in), 25 A8 (in), 26 A13 (in), 27 A14 (in), 28 VCC (power)

## M87C257-90F6
designator U?
Address Latched 256K (32K x 8) UV EPROM and OTP EPROM; Published: 24-Aug-2001; LatestRevisionDate: 06-Jun-2005; LatestRevisionNote: Stylized 3D Model Added.; DatasheetVersion: Jun-1996; PackageReference: FDIP28W; Publisher: Altium Limited; PackageDescription: Ceramic Frit-seal DIP, Window; 28 Leads; Row Spacing 15.24 mm; Pitch 2.54 mm; ComponentLink1Description: Manufacturer Link; ComponentLink1URL: http://www.st.com/
footprint FDIP28W (Ceramic Frit-seal DIP, Window; 28 Leads; Row Spacing 15.24 mm; Pitch 2.54 mm)
3D model FDIP28W (Ceramic Frit-seal DIP, Window; 28 Leads; Row Spacing 15.24 mm; Pitch 2.54 mm)
pins: 1 ~{AS}/VPP (in), 2 A12 (in), 3 A7 (in), 4 A6 (in), 5 A5 (in), 6 A4 (in), 7 A3 (in), 8 A2 (in), 9 A1 (in), 10 A0 (in), 11 Q0 (io), 12 Q1 (io), 13 Q2 (io), 14 GND (power), 15 Q3 (io), 16 Q4 (io), 17 Q5 (io), 18 Q6 (io), 19 Q7 (io), 20 ~{CE} (in), 21 A10 (in), 22 ~{OE} (in), 23 A11 (in), 24 A9 (in), 25 A8 (in), 26 A13 (in), 27 A14 (in), 28 VCC (power)

## M87C257-90F6X
designator U?
Address Latched 256K (32K x 8) UV EPROM and OTP EPROM; Published: 24-Aug-2001; LatestRevisionDate: 06-Jun-2005; LatestRevisionNote: Stylized 3D Model Added.; DatasheetVersion: Jun-1996; PackageReference: FDIP28W; Publisher: Altium Limited; PackageDescription: Ceramic Frit-seal DIP, Window; 28 Leads; Row Spacing 15.24 mm; Pitch 2.54 mm; ComponentLink1Description: Manufacturer Link; ComponentLink1URL: http://www.st.com/
footprint FDIP28W (Ceramic Frit-seal DIP, Window; 28 Leads; Row Spacing 15.24 mm; Pitch 2.54 mm)
3D model FDIP28W (Ceramic Frit-seal DIP, Window; 28 Leads; Row Spacing 15.24 mm; Pitch 2.54 mm)
pins: 1 ~{AS}/VPP (in), 2 A12 (in), 3 A7 (in), 4 A6 (in), 5 A5 (in), 6 A4 (in), 7 A3 (in), 8 A2 (in), 9 A1 (in), 10 A0 (in), 11 Q0 (io), 12 Q1 (io), 13 Q2 (io), 14 GND (power), 15 Q3 (io), 16 Q4 (io), 17 Q5 (io), 18 Q6 (io), 19 Q7 (io), 20 ~{CE} (in), 21 A10 (in), 22 ~{OE} (in), 23 A11 (in), 24 A9 (in), 25 A8 (in), 26 A13 (in), 27 A14 (in), 28 VCC (power)

## M87C257-90F7
designator U?
Address Latched 256K (32K x 8) UV EPROM and OTP EPROM; Published: 24-Aug-2001; LatestRevisionDate: 06-Jun-2005; LatestRevisionNote: Stylized 3D Model Added.; DatasheetVersion: Jun-1996; PackageReference: FDIP28W; Publisher: Altium Limited; PackageDescription: Ceramic Frit-seal DIP, Window; 28 Leads; Row Spacing 15.24 mm; Pitch 2.54 mm; ComponentLink1Description: Manufacturer Link; ComponentLink1URL: http://www.st.com/
footprint FDIP28W (Ceramic Frit-seal DIP, Window; 28 Leads; Row Spacing 15.24 mm; Pitch 2.54 mm)
3D model FDIP28W (Ceramic Frit-seal DIP, Window; 28 Leads; Row Spacing 15.24 mm; Pitch 2.54 mm)
pins: 1 ~{AS}/VPP (in), 2 A12 (in), 3 A7 (in), 4 A6 (in), 5 A5 (in), 6 A4 (in), 7 A3 (in), 8 A2 (in), 9 A1 (in), 10 A0 (in), 11 Q0 (io), 12 Q1 (io), 13 Q2 (io), 14 GND (power), 15 Q3 (io), 16 Q4 (io), 17 Q5 (io), 18 Q6 (io), 19 Q7 (io), 20 ~{CE} (in), 21 A10 (in), 22 ~{OE} (in), 23 A11 (in), 24 A9 (in), 25 A8 (in), 26 A13 (in), 27 A14 (in), 28 VCC (power)

## M87C257-90F7X
designator U?
Address Latched 256K (32K x 8) UV EPROM and OTP EPROM; Published: 24-Aug-2001; LatestRevisionDate: 06-Jun-2005; LatestRevisionNote: Stylized 3D Model Added.; DatasheetVersion: Jun-1996; PackageReference: FDIP28W; Publisher: Altium Limited; PackageDescription: Ceramic Frit-seal DIP, Window; 28 Leads; Row Spacing 15.24 mm; Pitch 2.54 mm; ComponentLink1Description: Manufacturer Link; ComponentLink1URL: http://www.st.com/
footprint FDIP28W (Ceramic Frit-seal DIP, Window; 28 Leads; Row Spacing 15.24 mm; Pitch 2.54 mm)
3D model FDIP28W (Ceramic Frit-seal DIP, Window; 28 Leads; Row Spacing 15.24 mm; Pitch 2.54 mm)
pins: 1 ~{AS}/VPP (in), 2 A12 (in), 3 A7 (in), 4 A6 (in), 5 A5 (in), 6 A4 (in), 7 A3 (in), 8 A2 (in), 9 A1 (in), 10 A0 (in), 11 Q0 (io), 12 Q1 (io), 13 Q2 (io), 14 GND (power), 15 Q3 (io), 16 Q4 (io), 17 Q5 (io), 18 Q6 (io), 19 Q7 (io), 20 ~{CE} (in), 21 A10 (in), 22 ~{OE} (in), 23 A11 (in), 24 A9 (in), 25 A8 (in), 26 A13 (in), 27 A14 (in), 28 VCC (power)

## M87C257-90XC1
designator U?
Address Latched 256K (32K x 8) UV EPROM and OTP EPROM; Note: Do Not Use (DU) pin numbers 1 and 17.; Published: 24-Aug-2001; LatestRevisionDate: 06-Jun-2005; LatestRevisionNote: Stylized 3D Model Added.; DatasheetVersion: Jun-1996; PackageVersion: Jun-1998; PackageReference: PLCC32; Publisher: Altium Limited; PackageDescription: Leaded Chip Carrier; 32 Leads; Body 11.5 x 14 mm; Code_JEDEC: MS-016-AE; Code_IPC: PLCC/R-32; ComponentLink1Description: Manufacturer Link; ComponentLink1URL: http://www.st.com/
footprint PLCC32 (Leaded Chip Carrier; 32 Leads; Body 11.5 x 14 mm)
3D model M87C257-PLCC32 (Leaded Chip Carrier; 32 Leads; Body 11.5 x 14 mm)
pins: 1 DU, 2 ~{AS}/VPP (in), 3 A12 (in), 4 A7 (in), 5 A6 (in), 6 A5 (in), 7 A4 (in), 8 A3 (in), 9 A2 (in), 10 A1 (in), 11 A0 (in), 12 NC, 13 Q0 (io), 14 Q1 (io), 15 Q2 (io), 16 GND (power), 17 DU, 18 Q3 (io), 19 Q4 (io), 20 Q5 (io), 21 Q6 (io), 22 Q7 (io), 23 ~{CE} (in), 24 A10 (in), 25 ~{OE} (in), 26 NC, 27 A11 (in), 28 A9 (in), 29 A8 (in), 30 A13 (in), 31 A14 (in), 32 VCC (power)

## M87C257-90XC1X
designator U?
Address Latched 256K (32K x 8) UV EPROM and OTP EPROM; Note: Do Not Use (DU) pin numbers 1 and 17.; Published: 24-Aug-2001; LatestRevisionDate: 06-Jun-2005; LatestRevisionNote: Stylized 3D Model Added.; DatasheetVersion: Jun-1996; PackageVersion: Jun-1998; PackageReference: PLCC32; Publisher: Altium Limited; PackageDescription: Leaded Chip Carrier; 32 Leads; Body 11.5 x 14 mm; Code_JEDEC: MS-016-AE; Code_IPC: PLCC/R-32; ComponentLink1Description: Manufacturer Link; ComponentLink1URL: http://www.st.com/
footprint PLCC32 (Leaded Chip Carrier; 32 Leads; Body 11.5 x 14 mm)
3D model M87C257-PLCC32 (Leaded Chip Carrier; 32 Leads; Body 11.5 x 14 mm)
pins: 1 DU, 2 ~{AS}/VPP (in), 3 A12 (in), 4 A7 (in), 5 A6 (in), 6 A5 (in), 7 A4 (in), 8 A3 (in), 9 A2 (in), 10 A1 (in), 11 A0 (in), 12 NC, 13 Q0 (io), 14 Q1 (io), 15 Q2 (io), 16 GND (power), 17 DU, 18 Q3 (io), 19 Q4 (io), 20 Q5 (io), 21 Q6 (io), 22 Q7 (io), 23 ~{CE} (in), 24 A10 (in), 25 ~{OE} (in), 26 NC, 27 A11 (in), 28 A9 (in), 29 A8 (in), 30 A13 (in), 31 A14 (in), 32 VCC (power)

## M87C257-90XC3
designator U?
Address Latched 256K (32K x 8) UV EPROM and OTP EPROM; Note: Do Not Use (DU) pin numbers 1 and 17.; Published: 24-Aug-2001; LatestRevisionDate: 06-Jun-2005; LatestRevisionNote: Stylized 3D Model Added.; DatasheetVersion: Jun-1996; PackageVersion: Jun-1998; PackageReference: PLCC32; Publisher: Altium Limited; PackageDescription: Leaded Chip Carrier; 32 Leads; Body 11.5 x 14 mm; Code_JEDEC: MS-016-AE; Code_IPC: PLCC/R-32; ComponentLink1Description: Manufacturer Link; ComponentLink1URL: http://www.st.com/
footprint PLCC32 (Leaded Chip Carrier; 32 Leads; Body 11.5 x 14 mm)
3D model M87C257-PLCC32 (Leaded Chip Carrier; 32 Leads; Body 11.5 x 14 mm)
pins: 1 DU, 2 ~{AS}/VPP (in), 3 A12 (in), 4 A7 (in), 5 A6 (in), 6 A5 (in), 7 A4 (in), 8 A3 (in), 9 A2 (in), 10 A1 (in), 11 A0 (in), 12 NC, 13 Q0 (io), 14 Q1 (io), 15 Q2 (io), 16 GND (power), 17 DU, 18 Q3 (io), 19 Q4 (io), 20 Q5 (io), 21 Q6 (io), 22 Q7 (io), 23 ~{CE} (in), 24 A10 (in), 25 ~{OE} (in), 26 NC, 27 A11 (in), 28 A9 (in), 29 A8 (in), 30 A13 (in), 31 A14 (in), 32 VCC (power)

## M87C257-90XC3X
designator U?
Address Latched 256K (32K x 8) UV EPROM and OTP EPROM; Note: Do Not Use (DU) pin numbers 1 and 17.; Published: 24-Aug-2001; LatestRevisionDate: 06-Jun-2005; LatestRevisionNote: Stylized 3D Model Added.; DatasheetVersion: Jun-1996; PackageVersion: Jun-1998; PackageReference: PLCC32; Publisher: Altium Limited; PackageDescription: Leaded Chip Carrier; 32 Leads; Body 11.5 x 14 mm; Code_JEDEC: MS-016-AE; Code_IPC: PLCC/R-32; ComponentLink1Description: Manufacturer Link; ComponentLink1URL: http://www.st.com/
footprint PLCC32 (Leaded Chip Carrier; 32 Leads; Body 11.5 x 14 mm)
3D model M87C257-PLCC32 (Leaded Chip Carrier; 32 Leads; Body 11.5 x 14 mm)
pins: 1 DU, 2 ~{AS}/VPP (in), 3 A12 (in), 4 A7 (in), 5 A6 (in), 6 A5 (in), 7 A4 (in), 8 A3 (in), 9 A2 (in), 10 A1 (in), 11 A0 (in), 12 NC, 13 Q0 (io), 14 Q1 (io), 15 Q2 (io), 16 GND (power), 17 DU, 18 Q3 (io), 19 Q4 (io), 20 Q5 (io), 21 Q6 (io), 22 Q7 (io), 23 ~{CE} (in), 24 A10 (in), 25 ~{OE} (in), 26 NC, 27 A11 (in), 28 A9 (in), 29 A8 (in), 30 A13 (in), 31 A14 (in), 32 VCC (power)

## M87C257-90XC6
designator U?
Address Latched 256K (32K x 8) UV EPROM and OTP EPROM; Note: Do Not Use (DU) pin numbers 1 and 17.; Published: 24-Aug-2001; LatestRevisionDate: 06-Jun-2005; LatestRevisionNote: Stylized 3D Model Added.; DatasheetVersion: Jun-1996; PackageVersion: Jun-1998; PackageReference: PLCC32; Publisher: Altium Limited; PackageDescription: Leaded Chip Carrier; 32 Leads; Body 11.5 x 14 mm; Code_JEDEC: MS-016-AE; Code_IPC: PLCC/R-32; ComponentLink1Description: Manufacturer Link; ComponentLink1URL: http://www.st.com/
footprint PLCC32 (Leaded Chip Carrier; 32 Leads; Body 11.5 x 14 mm)
3D model M87C257-PLCC32 (Leaded Chip Carrier; 32 Leads; Body 11.5 x 14 mm)
pins: 1 DU, 2 ~{AS}/VPP (in), 3 A12 (in), 4 A7 (in), 5 A6 (in), 6 A5 (in), 7 A4 (in), 8 A3 (in), 9 A2 (in), 10 A1 (in), 11 A0 (in), 12 NC, 13 Q0 (io), 14 Q1 (io), 15 Q2 (io), 16 GND (power), 17 DU, 18 Q3 (io), 19 Q4 (io), 20 Q5 (io), 21 Q6 (io), 22 Q7 (io), 23 ~{CE} (in), 24 A10 (in), 25 ~{OE} (in), 26 NC, 27 A11 (in), 28 A9 (in), 29 A8 (in), 30 A13 (in), 31 A14 (in), 32 VCC (power)

## M87C257-90XC6X
designator U?
Address Latched 256K (32K x 8) UV EPROM and OTP EPROM; Note: Do Not Use (DU) pin numbers 1 and 17.; Published: 24-Aug-2001; LatestRevisionDate: 06-Jun-2005; LatestRevisionNote: Stylized 3D Model Added.; DatasheetVersion: Jun-1996; PackageVersion: Jun-1998; PackageReference: PLCC32; Publisher: Altium Limited; PackageDescription: Leaded Chip Carrier; 32 Leads; Body 11.5 x 14 mm; Code_JEDEC: MS-016-AE; Code_IPC: PLCC/R-32; ComponentLink1Description: Manufacturer Link; ComponentLink1URL: http://www.st.com/
footprint PLCC32 (Leaded Chip Carrier; 32 Leads; Body 11.5 x 14 mm)
3D model M87C257-PLCC32 (Leaded Chip Carrier; 32 Leads; Body 11.5 x 14 mm)
pins: 1 DU, 2 ~{AS}/VPP (in), 3 A12 (in), 4 A7 (in), 5 A6 (in), 6 A5 (in), 7 A4 (in), 8 A3 (in), 9 A2 (in), 10 A1 (in), 11 A0 (in), 12 NC, 13 Q0 (io), 14 Q1 (io), 15 Q2 (io), 16 GND (power), 17 DU, 18 Q3 (io), 19 Q4 (io), 20 Q5 (io), 21 Q6 (io), 22 Q7 (io), 23 ~{CE} (in), 24 A10 (in), 25 ~{OE} (in), 26 NC, 27 A11 (in), 28 A9 (in), 29 A8 (in), 30 A13 (in), 31 A14 (in), 32 VCC (power)

## M87C257-90XC7
designator U?
Address Latched 256K (32K x 8) UV EPROM and OTP EPROM; Note: Do Not Use (DU) pin numbers 1 and 17.; Published: 24-Aug-2001; LatestRevisionDate: 06-Jun-2005; LatestRevisionNote: Stylized 3D Model Added.; DatasheetVersion: Jun-1996; PackageVersion: Jun-1998; PackageReference: PLCC32; Publisher: Altium Limited; PackageDescription: Leaded Chip Carrier; 32 Leads; Body 11.5 x 14 mm; Code_JEDEC: MS-016-AE; Code_IPC: PLCC/R-32; ComponentLink1Description: Manufacturer Link; ComponentLink1URL: http://www.st.com/
footprint PLCC32 (Leaded Chip Carrier; 32 Leads; Body 11.5 x 14 mm)
3D model M87C257-PLCC32 (Leaded Chip Carrier; 32 Leads; Body 11.5 x 14 mm)
pins: 1 DU, 2 ~{AS}/VPP (in), 3 A12 (in), 4 A7 (in), 5 A6 (in), 6 A5 (in), 7 A4 (in), 8 A3 (in), 9 A2 (in), 10 A1 (in), 11 A0 (in), 12 NC, 13 Q0 (io), 14 Q1 (io), 15 Q2 (io), 16 GND (power), 17 DU, 18 Q3 (io), 19 Q4 (io), 20 Q5 (io), 21 Q6 (io), 22 Q7 (io), 23 ~{CE} (in), 24 A10 (in), 25 ~{OE} (in), 26 NC, 27 A11 (in), 28 A9 (in), 29 A8 (in), 30 A13 (in), 31 A14 (in), 32 VCC (power)